# Altium integrated library Capacitor - Ceramic - Sumsung.IntLib: 1421 symbols (part 3 of 22)
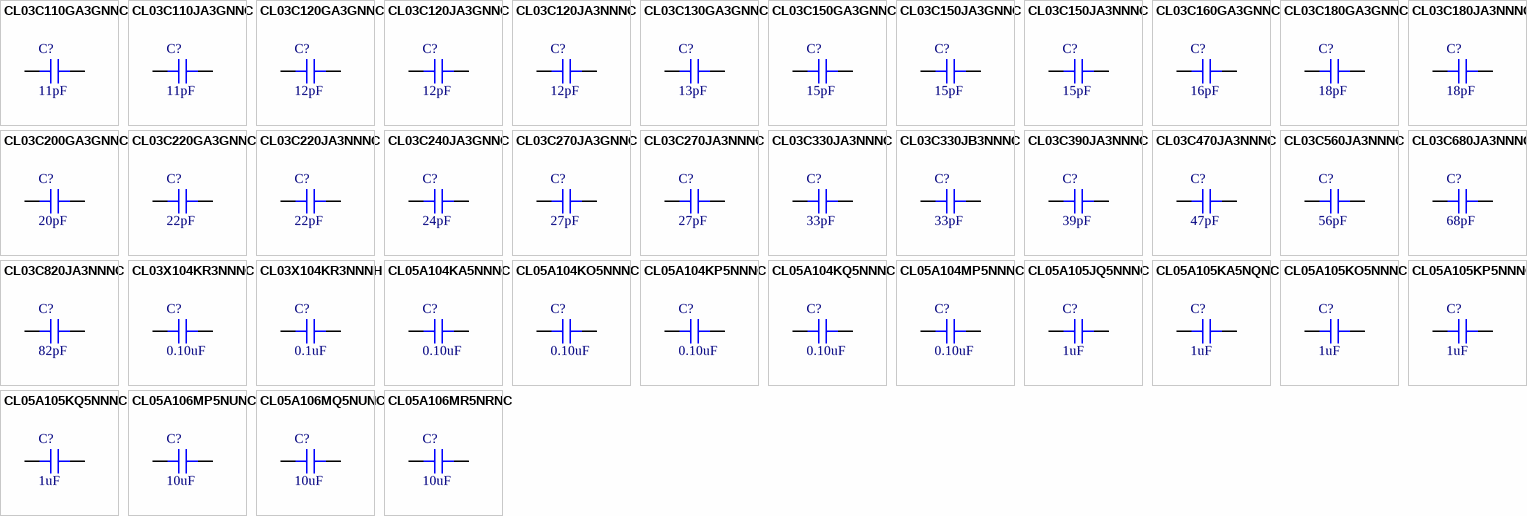
[diagram p37: symbols CL03C110GA3GNNC to CL05A106MR5NRNC]

## CL03C150GA3GNNC
designator C?, comment 15pF
CAP CER 15PF 25V NP0 0201; Part Number: CL03C150GA3GNNC; Manufacturer: Samsung Electro-Mechanics America, Inc.; TemperatureRange: -55C ~ 125C; TemperatureCoefficient: C0G, NP0; Tolerance: 2%; Value: 15pF; PartId: 21089; Supplier 1: Digi-Key; Supplier Part Number 1: 1276-6744-2-ND; ComponentLink1Description: Datasheet; ComponentLink1URL: http://www.samsungsem.com/kr/support/product-search/mlcc/__icsFiles/afieldfile/2016/08/18/S_CL03C150GA3GNNC.pdf; ComponentLink2Description: Digi-Key Listing; ComponentLink2URL: https://www.digikey.com/product-detail/en/samsung-electro-mechanics-america-inc/CL03C150GA3GNNC/1276-6744-2-ND/5961228; Voltage: 25V; Price: 0.0153; Device Package: 0201 (0603 Metric)
footprint CAP 0201/0603
pins: 1, 2

## CL03C150JA3GNNC
designator C?, comment 15pF
CAP CER 15PF 25V C0G/NP0 0201; Part Number: CL03C150JA3GNNC; Manufacturer: Samsung Electro-Mechanics; TemperatureRange: -55C ~ 125C; TemperatureCoefficient: C0G, NP0; Tolerance: 5%; Value: 15pF; PartId: 30140; Supplier 1: Digi-Key; Supplier Part Number 1: 1276-6573-2-ND; ComponentLink1Description: Datasheet; ComponentLink1URL: http://www.samsungsem.com/kr/support/product-search/mlcc/CL03C150JA3GNNC.jsp; ComponentLink2Description: Digi-Key Listing; ComponentLink2URL: https://www.digikey.com/product-detail/en/samsung-electro-mechanics/CL03C150JA3GNNC/1276-6573-2-ND/5961057; Voltage: 25V; Price: 0; Device Package: 0201 (0603 Metric)
footprint CAP 0201/0603
pins: 1, 2

## CL03C150JA3NNNC
designator C?, comment 15pF
CAP CER 15PF 25V NP0 0201; Part Number: CL03C150JA3NNNC; Manufacturer: Samsung Electro-Mechanics America, Inc.; TemperatureRange: -55C ~ 125C; TemperatureCoefficient: C0G, NP0; Tolerance: 5%; Value: 15pF; PartId: 20735; Supplier 1: Digi-Key; Supplier Part Number 1: 1276-6401-2-ND; ComponentLink1Description: Datasheet; ComponentLink1URL: http://www.samsungsem.com/kr/support/product-search/mlcc/__icsFiles/afieldfile/2016/08/18/S_CL03C150JA3NNNC.pdf; ComponentLink2Description: Digi-Key Listing; ComponentLink2URL: https://www.digikey.com/product-detail/en/samsung-electro-mechanics-america-inc/CL03C150JA3NNNC/1276-6401-2-ND/5180495; Voltage: 25V; Price: 0.0039; Device Package: 0201 (0603 Metric)
footprint CAP 0201/0603
pins: 1, 2

## CL03C160GA3GNNC
designator C?, comment 16pF
CAP CER 16PF 25V NP0 0201; Part Number: CL03C160GA3GNNC; Manufacturer: Samsung Electro-Mechanics America, Inc.; TemperatureRange: -55C ~ 125C; TemperatureCoefficient: C0G, NP0; Tolerance: 2%; Value: 16pF; PartId: 21091; Supplier 1: Digi-Key; Supplier Part Number 1: 1276-6749-2-ND; ComponentLink1Description: Datasheet; ComponentLink1URL: //media.digikey.com/pdf/Data%20Sheets/Samsung%20PDFs/CL03C160GA3GNNC_Spec.pdf; ComponentLink2Description: Digi-Key Listing; ComponentLink2URL: https://www.digikey.com/product-detail/en/samsung-electro-mechanics-america-inc/CL03C160GA3GNNC/1276-6749-2-ND/5961233; Voltage: 25V; Price: 0.0153; Device Package: 0201 (0603 Metric)
footprint CAP 0201/0603
pins: 1, 2

## CL03C180GA3GNNC
designator C?, comment 18pF
CAP CER 18PF 25V NP0 0201; Part Number: CL03C180GA3GNNC; Manufacturer: Samsung Electro-Mechanics America, Inc.; TemperatureRange: -55C ~ 125C; TemperatureCoefficient: C0G, NP0; Tolerance: 2%; Value: 18pF; PartId: 21019; Supplier 1: Digi-Key; Supplier Part Number 1: 1276-6791-2-ND; ComponentLink1Description: Datasheet; ComponentLink1URL: http://www.samsungsem.com/kr/support/product-search/mlcc/__icsFiles/afieldfile/2016/08/18/S_CL03C180GA3GNNC.pdf; ComponentLink2Description: Digi-Key Listing; ComponentLink2URL: https://www.digikey.com/product-detail/en/samsung-electro-mechanics-america-inc/CL03C180GA3GNNC/1276-6791-2-ND/5961275; Voltage: 25V; Price: 0.0236; Device Package: 0201 (0603 Metric)
footprint CAP 0201/0603
pins: 1, 2

## CL03C180JA3NNNC
designator C?, comment 18pF
CAP CER 18PF 25V NP0 0201; Part Number: CL03C180JA3NNNC; Manufacturer: Samsung Electro-Mechanics America, Inc.; TemperatureRange: -55C ~ 125C; TemperatureCoefficient: C0G, NP0; Tolerance: 5%; Value: 18pF; PartId: 20731; Supplier 1: Digi-Key; Supplier Part Number 1: 1276-6402-2-ND; ComponentLink1Description: Datasheet; ComponentLink1URL: http://www.samsungsem.com/kr/support/product-search/mlcc/__icsFiles/afieldfile/2016/08/18/S_CL03C180JA3NNNC.pdf; ComponentLink2Description: Digi-Key Listing; ComponentLink2URL: https://www.digikey.com/product-detail/en/samsung-electro-mechanics-america-inc/CL03C180JA3NNNC/1276-6402-2-ND/5180496; Voltage: 25V; Price: 0.0039; Device Package: 0201 (0603 Metric)
footprint CAP 0201/0603
pins: 1, 2

## CL03C200GA3GNNC
designator C?, comment 20pF
CAP CER 20PF 25V NP0 0201; Part Number: CL03C200GA3GNNC; Manufacturer: Samsung Electro-Mechanics America, Inc.; TemperatureRange: -55C ~ 125C; TemperatureCoefficient: C0G, NP0; Tolerance: 2%; Value: 20pF; PartId: 21090; Supplier 1: Digi-Key; Supplier Part Number 1: 1276-6746-2-ND; ComponentLink1Description: Datasheet; ComponentLink1URL: http://www.samsungsem.com/kr/support/product-search/mlcc/__icsFiles/afieldfile/2016/08/18/S_CL03C200GA3GNNC.pdf; ComponentLink2Description: Digi-Key Listing; ComponentLink2URL: https://www.digikey.com/product-detail/en/samsung-electro-mechanics-america-inc/CL03C200GA3GNNC/1276-6746-2-ND/5961230; Voltage: 25V; Price: 0.0153; Device Package: 0201 (0603 Metric)
footprint CAP 0201/0603
pins: 1, 2

## CL03C220GA3GNNC
designator C?, comment 22pF
CAP CER 22PF 25V NP0 0201; Part Number: CL03C220GA3GNNC; Manufacturer: Samsung Electro-Mechanics America, Inc.; TemperatureRange: -55C ~ 125C; TemperatureCoefficient: C0G, NP0; Tolerance: 2%; Value: 22pF; PartId: 21094; Supplier 1: Digi-Key; Supplier Part Number 1: 1276-6747-2-ND; ComponentLink1Description: Datasheet; ComponentLink1URL: http://www.samsungsem.com/kr/support/product-search/mlcc/__icsFiles/afieldfile/2016/08/18/S_CL03C220GA3GNNC.pdf; ComponentLink2Description: Digi-Key Listing; ComponentLink2URL: https://www.digikey.com/product-detail/en/samsung-electro-mechanics-america-inc/CL03C220GA3GNNC/1276-6747-2-ND/5961231; Voltage: 25V; Price: 0.0153; Device Package: 0201 (0603 Metric)
footprint CAP 0201/0603
pins: 1, 2

## CL03C220JA3NNNC
designator C?, comment 22pF
CAP CER 22PF 25V NP0 0201; Part Number: CL03C220JA3NNNC; Manufacturer: Samsung Electro-Mechanics America, Inc.; TemperatureRange: -55C ~ 125C; TemperatureCoefficient: C0G, NP0; Tolerance: 5%; Value: 22pF; PartId: 20729; Supplier 1: Digi-Key; Supplier Part Number 1: 1276-6403-2-ND; ComponentLink1Description: Datasheet; ComponentLink1URL: //media.digikey.com/pdf/Data%20Sheets/Samsung%20PDFs/CL_Series_MLCC_ds.pdf; ComponentLink2Description: Digi-Key Listing; ComponentLink2URL: https://www.digikey.com/product-detail/en/samsung-electro-mechanics-america-inc/CL03C220JA3NNNC/1276-6403-2-ND/5180497; Voltage: 25V; Price: 0.0039; Device Package: 0201 (0603 Metric)
footprint CAP 0201/0603
pins: 1, 2

## CL03C240JA3GNNC
designator C?, comment 24pF
CAP CER 24PF 25V NP0 0201; Part Number: CL03C240JA3GNNC; Manufacturer: Samsung Electro-Mechanics America, Inc.; TemperatureRange: -55C ~ 125C; TemperatureCoefficient: C0G, NP0; Tolerance: 5%; Value: 24pF; PartId: 21034; Supplier 1: Digi-Key; Supplier Part Number 1: 1276-6564-2-ND; ComponentLink1Description: Datasheet; ComponentLink1URL: http://www.samsungsem.com/kr/support/product-search/mlcc/__icsFiles/afieldfile/2016/08/18/S_CL03C240JA3GNNC.pdf; ComponentLink2Description: Digi-Key Listing; ComponentLink2URL: https://www.digikey.com/product-detail/en/samsung-electro-mechanics-america-inc/CL03C240JA3GNNC/1276-6564-2-ND/5961048; Voltage: 25V; Price: 0.0035; Device Package: 0201 (0603 Metric)
footprint CAP 0201/0603
pins: 1, 2

## CL03C270JA3GNNC
designator C?, comment 27pF
CAP CER 27PF 25V NP0 0201; Part Number: CL03C270JA3GNNC; Manufacturer: Samsung Electro-Mechanics America, Inc.; TemperatureRange: -55C ~ 125C; TemperatureCoefficient: C0G, NP0; Tolerance: 5%; Value: 27pF; PartId: 21035; Supplier 1: Digi-Key; Supplier Part Number 1: 1276-6574-2-ND; ComponentLink1Description: Datasheet; ComponentLink1URL: http://www.samsungsem.com/kr/support/product-search/mlcc/__icsFiles/afieldfile/2016/08/18/S_CL03C270JA3GNNC.pdf; ComponentLink2Description: Digi-Key Listing; ComponentLink2URL: https://www.digikey.com/product-detail/en/samsung-electro-mechanics-america-inc/CL03C270JA3GNNC/1276-6574-2-ND/5961058; Voltage: 25V; Price: 0.0037; Device Package: 0201 (0603 Metric)
footprint CAP 0201/0603
pins: 1, 2

## CL03C270JA3NNNC
designator C?, comment 27pF
CAP CER 27PF 25V NP0 0201; Part Number: CL03C270JA3NNNC; Manufacturer: Samsung Electro-Mechanics America, Inc.; TemperatureRange: -55C ~ 125C; TemperatureCoefficient: C0G, NP0; Tolerance: 5%; Value: 27pF; PartId: 21041; Supplier 1: Digi-Key; Supplier Part Number 1: 1276-6404-2-ND; ComponentLink1Description: Datasheet; ComponentLink1URL: http://www.samsungsem.com/kr/support/product-search/mlcc/__icsFiles/afieldfile/2016/08/18/S_CL03C270JA3NNNC.pdf; ComponentLink2Description: Digi-Key Listing; ComponentLink2URL: https://www.digikey.com/product-detail/en/samsung-electro-mechanics-america-inc/CL03C270JA3NNNC/1276-6404-2-ND/5180498; Voltage: 25V; Price: 0.0039; Device Package: 0201 (0603 Metric)
footprint CAP 0201/0603
pins: 1, 2

## CL03C330JA3NNNC
designator C?, comment 33pF
CAP CER 33PF 25V NP0 0201; Part Number: CL03C330JA3NNNC; Manufacturer: Samsung Electro-Mechanics America, Inc.; TemperatureRange: -55C ~ 125C; TemperatureCoefficient: C0G, NP0; Tolerance: 5%; Value: 33pF; PartId: 21082; Supplier 1: Digi-Key; Supplier Part Number 1: 1276-6405-2-ND; ComponentLink1Description: Datasheet; ComponentLink1URL: //media.digikey.com/pdf/Data%20Sheets/Samsung%20PDFs/MLCC_Catalog_2015.pdf; ComponentLink2Description: Digi-Key Listing; ComponentLink2URL: https://www.digikey.com/product-detail/en/samsung-electro-mechanics-america-inc/CL03C330JA3NNNC/1276-6405-2-ND/5180499; Voltage: 25V; Price: 0.0039; Device Package: 0201 (0603 Metric)
footprint CAP 0201/0603
pins: 1, 2

## CL03C330JB3NNNC
designator C?, comment 33pF
CAP CER 33PF 50V NP0 0201; Part Number: CL03C330JB3NNNC; Manufacturer: Samsung Electro-Mechanics America, Inc.; TemperatureRange: -55C ~ 125C; TemperatureCoefficient: C0G, NP0; Tolerance: 5%; Value: 33pF; PartId: 21038; Supplier 1: Digi-Key; Supplier Part Number 1: 1276-6740-2-ND; ComponentLink1Description: Datasheet; ComponentLink1URL: //media.digikey.com/pdf/Data%20Sheets/Samsung%20PDFs/CL_Series_MLCC_ds.pdf; ComponentLink2Description: Digi-Key Listing; ComponentLink2URL: https://www.digikey.com/product-detail/en/samsung-electro-mechanics-america-inc/CL03C330JB3NNNC/1276-6740-2-ND/5961224; Voltage: 50V; Price: 0.012; Device Package: 0201 (0603 Metric)
footprint CAP 0201/0603
pins: 1, 2

## CL03C390JA3NNNC
designator C?, comment 39pF
CAP CER 39PF 25V NP0 0201; Part Number: CL03C390JA3NNNC; Manufacturer: Samsung Electro-Mechanics America, Inc.; TemperatureRange: -55C ~ 125C; TemperatureCoefficient: C0G, NP0; Tolerance: 5%; Value: 39pF; PartId: 20998; Supplier 1: Digi-Key; Supplier Part Number 1: 1276-6406-2-ND; ComponentLink1Description: Datasheet; ComponentLink1URL: http://www.samsungsem.com/kr/support/product-search/mlcc/__icsFiles/afieldfile/2016/08/18/S_CL03C390JA3NNNC.pdf; ComponentLink2Description: Digi-Key Listing; ComponentLink2URL: https://www.digikey.com/product-detail/en/samsung-electro-mechanics-america-inc/CL03C390JA3NNNC/1276-6406-2-ND/5180500; Voltage: 25V; Price: 0.0039; Device Package: 0201 (0603 Metric)
footprint CAP 0201/0603
pins: 1, 2

## CL03C470JA3NNNC
designator C?, comment 47pF
CAP CER 47PF 25V NP0 0201; Part Number: CL03C470JA3NNNC; Manufacturer: Samsung Electro-Mechanics America, Inc.; TemperatureRange: -55C ~ 125C; TemperatureCoefficient: C0G, NP0; Tolerance: 5%; Value: 47pF; PartId: 21063; Supplier 1: Digi-Key; Supplier Part Number 1: 1276-6407-2-ND; ComponentLink1Description: Datasheet; ComponentLink1URL: http://www.samsungsem.com/kr/support/product-search/mlcc/__icsFiles/afieldfile/2016/08/18/S_CL03C470JA3NNNC.pdf; ComponentLink2Description: Digi-Key Listing; ComponentLink2URL: https://www.digikey.com/product-detail/en/samsung-electro-mechanics-america-inc/CL03C470JA3NNNC/1276-6407-2-ND/5180501; Voltage: 25V; Price: 0.0039; Device Package: 0201 (0603 Metric)
footprint CAP 0201/0603
pins: 1, 2

## CL03C560JA3NNNC
designator C?, comment 56pF
CAP CER 56PF 25V NP0 0201; Part Number: CL03C560JA3NNNC; Manufacturer: Samsung Electro-Mechanics America, Inc.; TemperatureRange: -55C ~ 125C; TemperatureCoefficient: C0G, NP0; Tolerance: 5%; Value: 56pF; PartId: 21045; Supplier 1: Digi-Key; Supplier Part Number 1: 1276-6408-2-ND; ComponentLink1Description: Datasheet; ComponentLink1URL: http://www.samsungsem.com/kr/support/product-search/mlcc/__icsFiles/afieldfile/2016/08/18/S_CL03C560JA3NNNC.pdf; ComponentLink2Description: Digi-Key Listing; ComponentLink2URL: https://www.digikey.com/product-detail/en/samsung-electro-mechanics-america-inc/CL03C560JA3NNNC/1276-6408-2-ND/5180502; Voltage: 25V; Price: 0.0039; Device Package: 0201 (0603 Metric)
footprint CAP 0201/0603
pins: 1, 2

## CL03C680JA3NNNC
designator C?, comment 68pF
CAP CER 68PF 25V NP0 0201; Part Number: CL03C680JA3NNNC; Manufacturer: Samsung Electro-Mechanics America, Inc.; TemperatureRange: -55C ~ 125C; TemperatureCoefficient: C0G, NP0; Tolerance: 5%; Value: 68pF; PartId: 20727; Supplier 1: Digi-Key; Supplier Part Number 1: 1276-6409-2-ND; ComponentLink1Description: Datasheet; ComponentLink1URL: http://www.samsungsem.com/kr/support/product-search/mlcc/__icsFiles/afieldfile/2016/08/18/S_CL03C680JA3NNNC.pdf; ComponentLink2Description: Digi-Key Listing; ComponentLink2URL: https://www.digikey.com/product-detail/en/samsung-electro-mechanics-america-inc/CL03C680JA3NNNC/1276-6409-2-ND/5180503; Voltage: 25V; Price: 0.0039; Device Package: 0201 (0603 Metric)
footprint CAP 0201/0603
pins: 1, 2

## CL03C820JA3NNNC
designator C?, comment 82pF
CAP CER 82PF 25V NP0 0201; Part Number: CL03C820JA3NNNC; Manufacturer: Samsung Electro-Mechanics America, Inc.; TemperatureRange: -55C ~ 125C; TemperatureCoefficient: C0G, NP0; Tolerance: 5%; Value: 82pF; PartId: 21042; Supplier 1: Digi-Key; Supplier Part Number 1: 1276-6410-2-ND; ComponentLink1Description: Datasheet; ComponentLink1URL: http://www.samsungsem.com/kr/support/product-search/mlcc/__icsFiles/afieldfile/2016/08/18/S_CL03C820JA3NNNC.pdf; ComponentLink2Description: Digi-Key Listing; ComponentLink2URL: https://www.digikey.com/product-detail/en/samsung-electro-mechanics-america-inc/CL03C820JA3NNNC/1276-6410-2-ND/5180504; Voltage: 25V; Price: 0.0039; Device Package: 0201 (0603 Metric)
footprint CAP 0201/0603
pins: 1, 2

## CL03X104KR3NNNC
designator C?, comment 0.10uF
CAP CER 0.1UF 4V X6S 0201; Part Number: CL03X104KR3NNNC; Manufacturer: Samsung Electro-Mechanics America, Inc.; TemperatureRange: -55C ~ 105C; Tolerance: 10%; Value: 0.10uF; PartId: 20877; Supplier 1: Digi-Key; Supplier Part Number 1: 1276-1439-2-ND; ComponentLink1Description: Datasheet; ComponentLink1URL: //media.digikey.com/pdf/Data%20Sheets/Samsung%20PDFs/CL03X104KR3NNNC.pdf; ComponentLink2Description: Digi-Key Listing; ComponentLink2URL: https://www.digikey.com/product-detail/en/samsung-electro-mechanics-america-inc/CL03X104KR3NNNC/1276-1439-2-ND/3887097; TemperatureCoefficient: X6S; Voltage: 4V; Price: 0.0067; Device Package: 0201 (0603 Metric)
footprint CAP 0201/0603
pins: 1, 2

## CL03X104KR3NNNH
designator C?, comment 0.1uF
CAP CER 0.1UF 4V X6S 0201; Part Number: CL03X104KR3NNNH; Manufacturer: Samsung Electro-Mechanics; TemperatureRange: -55C ~ 105C; Tolerance: 10%; Value: 0.1uF; PartId: 30119; Supplier 1: Digi-Key; Supplier Part Number 1: 1276-6450-2-ND; ComponentLink1Description: Datasheet; ComponentLink1URL: http://www.samsungsem.com/kr/support/product-search/mlcc/CL03X104KR3NNNH.jsp; ComponentLink2Description: Digi-Key Listing; ComponentLink2URL: https://www.digikey.com/product-detail/en/samsung-electro-mechanics/CL03X104KR3NNNH/1276-6450-2-ND/3894181; TemperatureCoefficient: X6S; Voltage: 4V; Price: 0; Device Package: 0201 (0603 Metric)
footprint CAP 0201/0603
pins: 1, 2

## CL05A104KA5NNNC
designator C?, comment 0.10uF
CAP CER 0.1UF 25V X5R 0402; Part Number: CL05A104KA5NNNC; Manufacturer: Samsung Electro-Mechanics America, Inc.; TemperatureRange: -55C ~ 85C; Tolerance: 10%; Value: 0.10uF; PartId: 12393; Supplier 1: Digi-Key; Supplier Part Number 1: 1276-1043-2-ND; ComponentLink1Description: Datasheet; ComponentLink1URL: http://www.samsungsem.com/kr/support/product-search/mlcc/CL05A104KA5NNNC.jsp; ComponentLink2Description: Digi-Key Listing; ComponentLink2URL: https://www.digikey.com/product-detail/en/samsung-electro-mechanics-america-inc/CL05A104KA5NNNC/1276-1043-2-ND/3886701; TemperatureCoefficient: X5R; Voltage: 25V; Price: 0.0048; Device Package: 0402 (1005 Metric)
footprint CAP 0402/1005
pins: 1, 2

## CL05A104KO5NNNC
designator C?, comment 0.10uF
CAP CER 0.1UF 16V X5R 0402; Part Number: CL05A104KO5NNNC; Manufacturer: Samsung Electro-Mechanics America, Inc.; TemperatureRange: -55C ~ 85C; Tolerance: 10%; Value: 0.10uF; PartId: 12656; Supplier 1: Digi-Key; Supplier Part Number 1: 1276-1234-2-ND; ComponentLink1Description: Datasheet; ComponentLink1URL: http://www.samsungsem.com/kr/support/product-search/mlcc/CL05A104KO5NNNC.jsp; ComponentLink2Description: Digi-Key Listing; ComponentLink2URL: https://www.digikey.com/product-detail/en/samsung-electro-mechanics-america-inc/CL05A104KO5NNNC/1276-1234-2-ND/3886892; TemperatureCoefficient: X5R; Voltage: 16V; Price: 0.0023; Device Package: 0402 (1005 Metric)
footprint CAP 0402/1005
pins: 1, 2

## CL05A104KP5NNNC
designator C?, comment 0.10uF
CAP CER 0.1UF 10V X5R 0402; Part Number: CL05A104KP5NNNC; Manufacturer: Samsung Electro-Mechanics America, Inc.; TemperatureRange: -55C ~ 85C; Tolerance: 10%; Value: 0.10uF; PartId: 12452; Supplier 1: Digi-Key; Supplier Part Number 1: 1276-1022-2-ND; ComponentLink1Description: Datasheet; ComponentLink1URL: http://www.samsungsem.com/kr/support/product-search/mlcc/CL05A104KP5NNNC.jsp; ComponentLink2Description: Digi-Key Listing; ComponentLink2URL: https://www.digikey.com/product-detail/en/samsung-electro-mechanics-america-inc/CL05A104KP5NNNC/1276-1022-2-ND/3886680; TemperatureCoefficient: X5R; Voltage: 10V; Price: 0.0018; Device Package: 0402 (1005 Metric)
footprint CAP 0402/1005
pins: 1, 2

## CL05A104KQ5NNNC
designator C?, comment 0.10uF
CAP CER 0.1UF 6.3V X5R 0402; Part Number: CL05A104KQ5NNNC; Manufacturer: Samsung Electro-Mechanics America, Inc.; TemperatureRange: -55C ~ 85C; Tolerance: 10%; Value: 0.10uF; PartId: 12413; Supplier 1: Digi-Key; Supplier Part Number 1: 1276-1442-2-ND; ComponentLink1Description: Datasheet; ComponentLink1URL: http://www.samsungsem.com/kr/support/product-search/mlcc/CL05A104KQ5NNNC.jsp; ComponentLink2Description: Digi-Key Listing; ComponentLink2URL: https://www.digikey.com/product-detail/en/samsung-electro-mechanics-america-inc/CL05A104KQ5NNNC/1276-1442-2-ND/3887100; TemperatureCoefficient: X5R; Voltage: 6.3V; Price: 0.0019; Device Package: 0402 (1005 Metric)
footprint CAP 0402/1005
pins: 1, 2

## CL05A104MP5NNNC
designator C?, comment 0.10uF
CAP CER 0.1UF 10V X5R 0402; Part Number: CL05A104MP5NNNC; Manufacturer: Samsung Electro-Mechanics America, Inc.; TemperatureRange: -55C ~ 85C; Tolerance: 20%; Value: 0.10uF; PartId: 12333; Supplier 1: Digi-Key; Supplier Part Number 1: 1276-1443-2-ND; ComponentLink1Description: Datasheet; ComponentLink1URL: http://www.samsungsem.com/kr/support/product-search/mlcc/CL05A104MP5NNNC.jsp; ComponentLink2Description: Digi-Key Listing; ComponentLink2URL: https://www.digikey.com/product-detail/en/samsung-electro-mechanics-america-inc/CL05A104MP5NNNC/1276-1443-2-ND/3887101; TemperatureCoefficient: X5R; Voltage: 10V; Price: 0.002; Device Package: 0402 (1005 Metric)
footprint CAP 0402/1005
pins: 1, 2

## CL05A105JQ5NNNC
designator C?, comment 1uF
CAP CER 1UF 6.3V X5R 0402; Part Number: CL05A105JQ5NNNC; Manufacturer: Samsung Electro-Mechanics America, Inc.; TemperatureRange: -55C ~ 85C; Tolerance: 5%; Value: 1uF; PartId: 12541; Supplier 1: Digi-Key; Supplier Part Number 1: 1276-1444-2-ND; ComponentLink1Description: Datasheet; ComponentLink1URL: http://www.samsungsem.com/kr/support/product-search/mlcc/CL05A105JQ5NNNC.jsp; ComponentLink2Description: Digi-Key Listing; ComponentLink2URL: https://www.digikey.com/product-detail/en/samsung-electro-mechanics-america-inc/CL05A105JQ5NNNC/1276-1444-2-ND/3887102; TemperatureCoefficient: X5R; Voltage: 6.3V; Price: 0.0043; Device Package: 0402 (1005 Metric)
footprint CAP 0402/1005
pins: 1, 2

## CL05A105KA5NQNC
designator C?, comment 1uF
CAP CER 1UF 25V X5R 0402; Part Number: CL05A105KA5NQNC; Manufacturer: Samsung Electro-Mechanics America, Inc.; TemperatureRange: -55C ~ 85C; Tolerance: 10%; Value: 1uF; PartId: 12730; Supplier 1: Digi-Key; Supplier Part Number 1: 1276-1445-2-ND; ComponentLink1Description: Datasheet; ComponentLink1URL: http://www.samsungsem.com/kr/support/product-search/mlcc/CL05A105KA5NQNC.jsp; ComponentLink2Description: Digi-Key Listing; ComponentLink2URL: https://www.digikey.com/product-detail/en/samsung-electro-mechanics-america-inc/CL05A105KA5NQNC/1276-1445-2-ND/3887103; TemperatureCoefficient: X5R; Voltage: 25V; Price: 0.0483; Device Package: 0402 (1005 Metric)
footprint CAP 0402/1005
pins: 1, 2

## CL05A105KO5NNNC
designator C?, comment 1uF
CAP CER 1UF 16V X5R 0402; Part Number: CL05A105KO5NNNC; Manufacturer: Samsung Electro-Mechanics America, Inc.; TemperatureRange: -55C ~ 85C; Tolerance: 10%; Value: 1uF; PartId: 12470; Supplier 1: Digi-Key; Supplier Part Number 1: 1276-1067-2-ND; ComponentLink1Description: Datasheet; ComponentLink1URL: http://www.samsungsem.com/kr/support/product-search/mlcc/CL05A105KO5NNNC.jsp; ComponentLink2Description: Digi-Key Listing; ComponentLink2URL: https://www.digikey.com/product-detail/en/samsung-electro-mechanics-america-inc/CL05A105KO5NNNC/1276-1067-2-ND/3886725; TemperatureCoefficient: X5R; Voltage: 16V; Price: 0.0105; Device Package: 0402 (1005 Metric)
footprint CAP 0402/1005
pins: 1, 2

## CL05A105KP5NNNC
designator C?, comment 1uF
CAP CER 1UF 10V X5R 0402; Part Number: CL05A105KP5NNNC; Manufacturer: Samsung Electro-Mechanics America, Inc.; TemperatureRange: -55C ~ 85C; Tolerance: 10%; Value: 1uF; PartId: 12436; Supplier 1: Digi-Key; Supplier Part Number 1: 1276-1076-2-ND; ComponentLink1Description: Datasheet; ComponentLink1URL: http://www.samsungsem.com/kr/support/product-search/mlcc/CL05A105KP5NNNC.jsp; ComponentLink2Description: Digi-Key Listing; ComponentLink2URL: https://www.digikey.com/product-detail/en/samsung-electro-mechanics-america-inc/CL05A105KP5NNNC/1276-1076-2-ND/3886734; TemperatureCoefficient: X5R; Voltage: 10V; Price: 0.0051; Device Package: 0402 (1005 Metric)
footprint CAP 0402/1005
pins: 1, 2

## CL05A105KQ5NNNC
designator C?, comment 1uF
CAP CER 1UF 6.3V X5R 0402; Part Number: CL05A105KQ5NNNC; Manufacturer: Samsung Electro-Mechanics America, Inc.; TemperatureRange: -55C ~ 85C; Tolerance: 10%; Value: 1uF; PartId: 12358; Supplier 1: Digi-Key; Supplier Part Number 1: 1276-1010-2-ND; ComponentLink1Description: Datasheet; ComponentLink1URL: http://www.samsungsem.com/kr/support/product-search/mlcc/CL05A105KQ5NNNC.jsp; ComponentLink2Description: Digi-Key Listing; ComponentLink2URL: https://www.digikey.com/product-detail/en/samsung-electro-mechanics-america-inc/CL05A105KQ5NNNC/1276-1010-2-ND/3886668; TemperatureCoefficient: X5R; Voltage: 6.3V; Price: 0.0051; Device Package: 0402 (1005 Metric)
footprint CAP 0402/1005
pins: 1, 2

## CL05A106MP5NUNC
designator C?, comment 10uF
CAP CER 10UF 10V X5R 0402; Part Number: CL05A106MP5NUNC; Manufacturer: Samsung Electro-Mechanics America, Inc.; TemperatureRange: -55C ~ 85C; Tolerance: 20%; Value: 10uF; PartId: 12347; Supplier 1: Digi-Key; Supplier Part Number 1: 1276-1450-2-ND; ComponentLink1Description: Datasheet; ComponentLink1URL: http://www.samsungsem.com/kr/support/product-search/mlcc/CL05A106MP5NUNC.jsp; ComponentLink2Description: Digi-Key Listing; ComponentLink2URL: https://www.digikey.com/product-detail/en/samsung-electro-mechanics-america-inc/CL05A106MP5NUNC/1276-1450-2-ND/3887108; TemperatureCoefficient: X5R; Voltage: 10V; Price: 0.1301; Device Package: 0402 (1005 Metric)
footprint CAP 0402/1005
pins: 1, 2

## CL05A106MQ5NUNC
designator C?, comment 10uF
CAP CER 10UF 6.3V X5R 0402; Part Number: CL05A106MQ5NUNC; Manufacturer: Samsung Electro-Mechanics America, Inc.; TemperatureRange: -55C ~ 85C; Tolerance: 20%; Value: 10uF; PartId: 12400; Supplier 1: Digi-Key; Supplier Part Number 1: 1276-1451-2-ND; ComponentLink1Description: Datasheet; ComponentLink1URL: http://www.samsungsem.com/kr/support/product-search/mlcc/CL05A106MQ5NUNC.jsp; ComponentLink2Description: Digi-Key Listing; ComponentLink2URL: https://www.digikey.com/product-detail/en/samsung-electro-mechanics-america-inc/CL05A106MQ5NUNC/1276-1451-2-ND/3887109; TemperatureCoefficient: X5R; Voltage: 6.3V; Price: 0.119; Device Package: 0402 (1005 Metric)
footprint CAP 0402/1005
pins: 1, 2

## CL05A106MR5NRNC
designator C?, comment 10uF
CAP CER 10UF 4V X5R 0402; Part Number: CL05A106MR5NRNC; Manufacturer: Samsung Electro-Mechanics America, Inc.; TemperatureRange: -55C ~ 85C; Tolerance: 20%; Value: 10uF; PartId: 12546; Supplier 1: Digi-Key; Supplier Part Number 1: 1276-1452-2-ND; ComponentLink1Description: Datasheet; ComponentLink1URL: http://www.samsungsem.com/kr/support/product-search/mlcc/CL05A106MR5NRNC.jsp; ComponentLink2Description: Digi-Key Listing; ComponentLink2URL: https://www.digikey.com/product-detail/en/samsung-electro-mechanics-america-inc/CL05A106MR5NRNC/1276-1452-2-ND/3887110; TemperatureCoefficient: X5R; Voltage: 4V; Price: 0.096; Device Package: 0402 (1005 Metric)
footprint CAP 0402/1005
pins: 1, 2

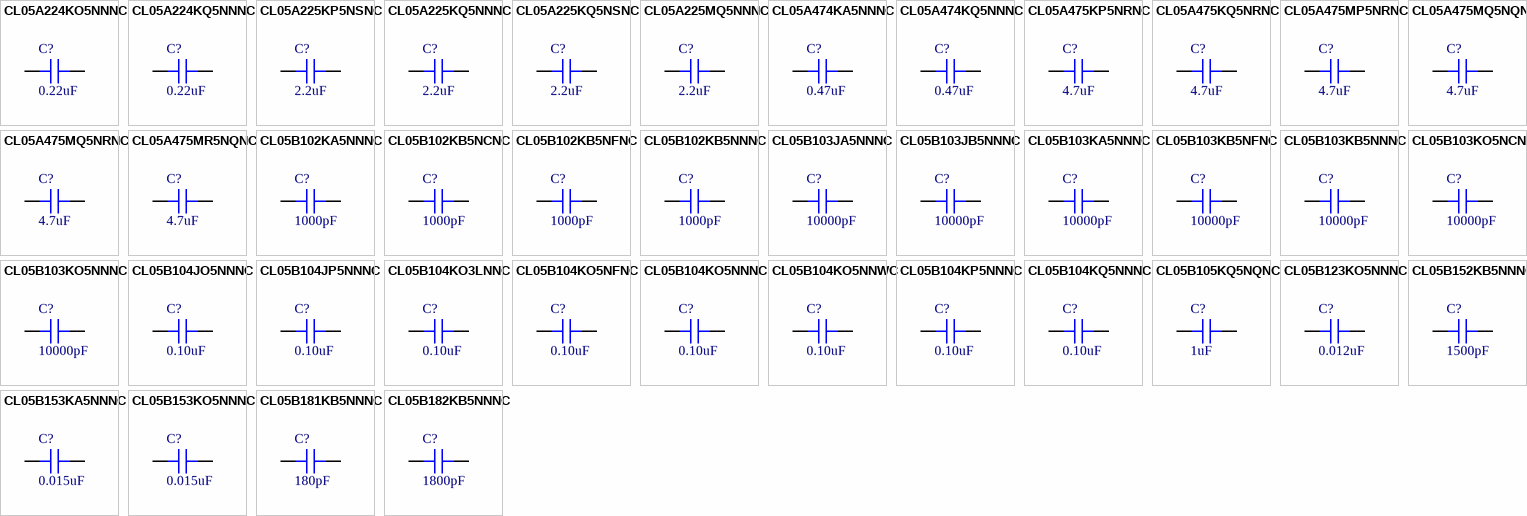
[diagram p4: symbols CL05A224KO5NNNC to CL05B182KB5NNNC]

## CL05A224KO5NNNC
designator C?, comment 0.22uF
CAP CER 0.22UF 16V X5R 0402; Part Number: CL05A224KO5NNNC; Manufacturer: Samsung Electro-Mechanics America, Inc.; TemperatureRange: -55C ~ 85C; Tolerance: 10%; Value: 0.22uF; PartId: 12912; Supplier 1: Digi-Key; Supplier Part Number 1: 1276-1456-2-ND; ComponentLink1Description: Datasheet; ComponentLink1URL: http://www.samsungsem.com/kr/support/product-search/mlcc/CL05A224KO5NNNC.jsp; ComponentLink2Description: Digi-Key Listing; ComponentLink2URL: https://www.digikey.com/product-detail/en/samsung-electro-mechanics-america-inc/CL05A224KO5NNNC/1276-1456-2-ND/3887114; TemperatureCoefficient: X5R; Voltage: 16V; Price: 0.0144; Device Package: 0402 (1005 Metric)
footprint CAP 0402/1005
pins: 1, 2

## CL05A224KQ5NNNC
designator C?, comment 0.22uF
CAP CER 0.22UF 6.3V X5R 0402; Part Number: CL05A224KQ5NNNC; Manufacturer: Samsung Electro-Mechanics America, Inc.; TemperatureRange: -55C ~ 85C; Tolerance: 10%; Value: 0.22uF; PartId: 12928; Supplier 1: Digi-Key; Supplier Part Number 1: 1276-1124-2-ND; ComponentLink1Description: Datasheet; ComponentLink1URL: http://www.samsungsem.com/kr/support/product-search/mlcc/CL05A224KQ5NNNC.jsp; ComponentLink2Description: Digi-Key Listing; ComponentLink2URL: https://www.digikey.com/product-detail/en/samsung-electro-mechanics-america-inc/CL05A224KQ5NNNC/1276-1124-2-ND/3886782; TemperatureCoefficient: X5R; Voltage: 6.3V; Price: 0.0089; Device Package: 0402 (1005 Metric)
footprint CAP 0402/1005
pins: 1, 2

## CL05A225KP5NSNC
designator C?, comment 2.2uF
CAP CER 2.2UF 10V X5R 0402; Part Number: CL05A225KP5NSNC; Manufacturer: Samsung Electro-Mechanics America, Inc.; TemperatureRange: -55C ~ 85C; Tolerance: 10%; Value: 2.2uF; PartId: 12898; Supplier 1: Digi-Key; Supplier Part Number 1: 1276-1108-2-ND; ComponentLink1Description: Datasheet; ComponentLink1URL: http://www.samsungsem.com/kr/support/product-search/mlcc/CL05A225KP5NSNC.jsp; ComponentLink2Description: Digi-Key Listing; ComponentLink2URL: https://www.digikey.com/product-detail/en/samsung-electro-mechanics-america-inc/CL05A225KP5NSNC/1276-1108-2-ND/3886766; TemperatureCoefficient: X5R; Voltage: 10V; Price: 0.0612; Device Package: 0402 (1005 Metric)
footprint CAP 0402/1005
pins: 1, 2

## CL05A225KQ5NNNC
designator C?, comment 2.2uF
CAP CER 2.2UF 6.3V X5R 0402; Part Number: CL05A225KQ5NNNC; Manufacturer: Samsung Electro-Mechanics America, Inc.; TemperatureRange: -55C ~ 85C; Tolerance: 10%; Value: 2.2uF; PartId: 12629; Supplier 1: Digi-Key; Supplier Part Number 1: 1276-1172-2-ND; ComponentLink1Description: Datasheet; ComponentLink1URL: http://www.samsungsem.com/kr/support/product-search/mlcc/CL05A225KQ5NNNC.jsp; ComponentLink2Description: Digi-Key Listing; ComponentLink2URL: https://www.digikey.com/product-detail/en/samsung-electro-mechanics-america-inc/CL05A225KQ5NNNC/1276-1172-2-ND/3886830; TemperatureCoefficient: X5R; Voltage: 6.3V; Price: 0.0293; Device Package: 0402 (1005 Metric)
footprint CAP 0402/1005
pins: 1, 2

## CL05A225KQ5NSNC
designator C?, comment 2.2uF
CAP CER 2.2UF 6.3V X5R 0402; Part Number: CL05A225KQ5NSNC; Manufacturer: Samsung Electro-Mechanics America, Inc.; TemperatureRange: -55C ~ 85C; Tolerance: 10%; Value: 2.2uF; PartId: 12868; Supplier 1: Digi-Key; Supplier Part Number 1: 1276-1464-2-ND; ComponentLink1Description: Datasheet; ComponentLink1URL: http://www.samsungsem.com/kr/support/product-search/mlcc/CL05A225KQ5NSNC.jsp; ComponentLink2Description: Digi-Key Listing; ComponentLink2URL: https://www.digikey.com/product-detail/en/samsung-electro-mechanics-america-inc/CL05A225KQ5NSNC/1276-1464-2-ND/3887122; TemperatureCoefficient: X5R; Voltage: 6.3V; Price: 0.0293; Device Package: 0402 (1005 Metric)
footprint CAP 0402/1005
pins: 1, 2

## CL05A225MQ5NNNC
designator C?, comment 2.2uF
CAP CER 2.2UF 6.3V X5R 0402; Part Number: CL05A225MQ5NNNC; Manufacturer: Samsung Electro-Mechanics America, Inc.; TemperatureRange: -55C ~ 85C; Tolerance: 20%; Value: 2.2uF; PartId: 12425; Supplier 1: Digi-Key; Supplier Part Number 1: 1276-1469-2-ND; ComponentLink1Description: Datasheet; ComponentLink1URL: http://www.samsungsem.com/kr/support/product-search/mlcc/CL05A225MQ5NNNC.jsp; ComponentLink2Description: Digi-Key Listing; ComponentLink2URL: https://www.digikey.com/product-detail/en/samsung-electro-mechanics-america-inc/CL05A225MQ5NNNC/1276-1469-2-ND/3887127; TemperatureCoefficient: X5R; Voltage: 6.3V; Price: 0.0151; Device Package: 0402 (1005 Metric)
footprint CAP 0402/1005
pins: 1, 2

## CL05A474KA5NNNC
designator C?, comment 0.47uF
CAP CER 0.47UF 25V X5R 0402; Part Number: CL05A474KA5NNNC; Manufacturer: Samsung Electro-Mechanics America, Inc.; TemperatureRange: -55C ~ 85C; Tolerance: 10%; Value: 0.47uF; PartId: 12812; Supplier 1: Digi-Key; Supplier Part Number 1: 1276-1477-2-ND; ComponentLink1Description: Datasheet; ComponentLink1URL: http://www.samsungsem.com/kr/support/product-search/mlcc/CL05A474KA5NNNC.jsp; ComponentLink2Description: Digi-Key Listing; ComponentLink2URL: https://www.digikey.com/product-detail/en/samsung-electro-mechanics-america-inc/CL05A474KA5NNNC/1276-1477-2-ND/3887135; TemperatureCoefficient: X5R; Voltage: 25V; Price: 0.0497; Device Package: 0402 (1005 Metric)
footprint CAP 0402/1005
pins: 1, 2

## CL05A474KQ5NNNC
designator C?, comment 0.47uF
CAP CER 0.47UF 6.3V X5R 0402; Part Number: CL05A474KQ5NNNC; Manufacturer: Samsung Electro-Mechanics America, Inc.; TemperatureRange: -55C ~ 85C; Tolerance: 10%; Value: 0.47uF; PartId: 12635; Supplier 1: Digi-Key; Supplier Part Number 1: 1276-1479-2-ND; ComponentLink1Description: Datasheet; ComponentLink1URL: http://www.samsungsem.com/kr/support/product-search/mlcc/CL05A474KQ5NNNC.jsp; ComponentLink2Description: Digi-Key Listing; ComponentLink2URL: https://www.digikey.com/product-detail/en/samsung-electro-mechanics-america-inc/CL05A474KQ5NNNC/1276-1479-2-ND/3887137; TemperatureCoefficient: X5R; Voltage: 6.3V; Price: 0.0094; Device Package: 0402 (1005 Metric)
footprint CAP 0402/1005
pins: 1, 2

## CL05A475KP5NRNC
designator C?, comment 4.7uF
CAP CER 4.7UF 10V X5R 0402; Part Number: CL05A475KP5NRNC; Manufacturer: Samsung Electro-Mechanics America, Inc.; TemperatureRange: -55C ~ 85C; Tolerance: 10%; Value: 4.7uF; PartId: 12521; Supplier 1: Digi-Key; Supplier Part Number 1: 1276-1480-2-ND; ComponentLink1Description: Datasheet; ComponentLink1URL: http://www.samsungsem.com/kr/support/product-search/mlcc/CL05A475KP5NRNC.jsp; ComponentLink2Description: Digi-Key Listing; ComponentLink2URL: https://www.digikey.com/product-detail/en/samsung-electro-mechanics-america-inc/CL05A475KP5NRNC/1276-1480-2-ND/3887138; TemperatureCoefficient: X5R; Voltage: 10V; Price: 0.096; Device Package: 0402 (1005 Metric)
footprint CAP 0402/1005
pins: 1, 2

## CL05A475KQ5NRNC
designator C?, comment 4.7uF
CAP CER 4.7UF 6.3V X5R 0402; Part Number: CL05A475KQ5NRNC; Manufacturer: Samsung Electro-Mechanics America, Inc.; TemperatureRange: -55C ~ 85C; Tolerance: 10%; Value: 4.7uF; PartId: 12522; Supplier 1: Digi-Key; Supplier Part Number 1: 1276-1481-2-ND; ComponentLink1Description: Datasheet; ComponentLink1URL: http://www.samsungsem.com/kr/support/product-search/mlcc/CL05A475KQ5NRNC.jsp; ComponentLink2Description: Digi-Key Listing; ComponentLink2URL: https://www.digikey.com/product-detail/en/samsung-electro-mechanics-america-inc/CL05A475KQ5NRNC/1276-1481-2-ND/3887139; TemperatureCoefficient: X5R; Voltage: 6.3V; Price: 0.08; Device Package: 0402 (1005 Metric)
footprint CAP 0402/1005
pins: 1, 2

## CL05A475MP5NRNC
designator C?, comment 4.7uF
CAP CER 4.7UF 10V X5R 0402; Part Number: CL05A475MP5NRNC; Manufacturer: Samsung Electro-Mechanics America, Inc.; TemperatureRange: -55C ~ 85C; Tolerance: 20%; Value: 4.7uF; PartId: 12573; Supplier 1: Digi-Key; Supplier Part Number 1: 1276-1482-2-ND; ComponentLink1Description: Datasheet; ComponentLink1URL: http://www.samsungsem.com/kr/support/product-search/mlcc/CL05A475MP5NRNC.jsp; ComponentLink2Description: Digi-Key Listing; ComponentLink2URL: https://www.digikey.com/product-detail/en/samsung-electro-mechanics-america-inc/CL05A475MP5NRNC/1276-1482-2-ND/3887140; TemperatureCoefficient: X5R; Voltage: 10V; Price: 0.0816; Device Package: 0402 (1005 Metric)
footprint CAP 0402/1005
pins: 1, 2

## CL05A475MQ5NQNC
designator C?, comment 4.7uF
CAP CER 4.7UF 6.3V X5R 0402; Part Number: CL05A475MQ5NQNC; Manufacturer: Samsung Electro-Mechanics America, Inc.; TemperatureRange: -55C ~ 85C; Tolerance: 20%; Value: 4.7uF; PartId: 12525; Supplier 1: Digi-Key; Supplier Part Number 1: 1276-1483-2-ND; ComponentLink1Description: Datasheet; ComponentLink1URL: http://www.samsungsem.com/kr/support/product-search/mlcc/CL05A475MQ5NQNC.jsp; ComponentLink2Description: Digi-Key Listing; ComponentLink2URL: https://www.digikey.com/product-detail/en/samsung-electro-mechanics-america-inc/CL05A475MQ5NQNC/1276-1483-2-ND/3887141; TemperatureCoefficient: X5R; Voltage: 6.3V; Price: 0.02; Device Package: 0402 (1005 Metric)
footprint CAP 0402/1005
pins: 1, 2

## CL05A475MQ5NRNC
designator C?, comment 4.7uF
CAP CER 4.7UF 6.3V X5R 0402; Part Number: CL05A475MQ5NRNC; Manufacturer: Samsung Electro-Mechanics America, Inc.; TemperatureRange: -55C ~ 85C; Tolerance: 20%; Value: 4.7uF; PartId: 12453; Supplier 1: Digi-Key; Supplier Part Number 1: 1276-1056-2-ND; ComponentLink1Description: Datasheet; ComponentLink1URL: http://www.samsungsem.com/kr/support/product-search/mlcc/CL05A475MQ5NRNC.jsp; ComponentLink2Description: Digi-Key Listing; ComponentLink2URL: https://www.digikey.com/product-detail/en/samsung-electro-mechanics-america-inc/CL05A475MQ5NRNC/1276-1056-2-ND/3886714; TemperatureCoefficient: X5R; Voltage: 6.3V; Price: 0.0332; Device Package: 0402 (1005 Metric)
footprint CAP 0402/1005
pins: 1, 2

## CL05A475MR5NQNC
designator C?, comment 4.7uF
CAP CER 4.7UF 4V X5R 0402; Part Number: CL05A475MR5NQNC; Manufacturer: Samsung Electro-Mechanics America, Inc.; TemperatureRange: -55C ~ 85C; Tolerance: 20%; Value: 4.7uF; PartId: 12693; Supplier 1: Digi-Key; Supplier Part Number 1: 1276-1484-2-ND; ComponentLink1Description: Datasheet; ComponentLink1URL: http://www.samsungsem.com/kr/support/product-search/mlcc/CL05A475MR5NQNC.jsp; ComponentLink2Description: Digi-Key Listing; ComponentLink2URL: https://www.digikey.com/product-detail/en/samsung-electro-mechanics-america-inc/CL05A475MR5NQNC/1276-1484-2-ND/3887142; TemperatureCoefficient: X5R; Voltage: 4V; Price: 0.0371; Device Package: 0402 (1005 Metric)
footprint CAP 0402/1005
pins: 1, 2

## CL05B102KA5NNNC
designator C?, comment 1000pF
CAP CER 1000PF 25V X7R 0402; Part Number: CL05B102KA5NNNC; Manufacturer: Samsung Electro-Mechanics America, Inc.; TemperatureRange: -55C ~ 125C; Tolerance: 10%; Value: 1000pF; PartId: 12787; Supplier 1: Digi-Key; Supplier Part Number 1: 1276-1174-2-ND; ComponentLink1Description: Datasheet; ComponentLink1URL: http://www.samsungsem.com/kr/support/product-search/mlcc/CL05B102KA5NNNC.jsp; ComponentLink2Description: Digi-Key Listing; ComponentLink2URL: https://www.digikey.com/product-detail/en/samsung-electro-mechanics-america-inc/CL05B102KA5NNNC/1276-1174-2-ND/3886832; TemperatureCoefficient: X7R; Voltage: 25V; Price: 0.0021; Device Package: 0402 (1005 Metric)
footprint CAP 0402/1005
pins: 1, 2

## CL05B102KB5NCNC
designator C?, comment 1000pF
CAP CER 1000PF 50V X7R 0402; Part Number: CL05B102KB5NCNC; Manufacturer: Samsung Electro-Mechanics America, Inc.; TemperatureRange: -55C ~ 125C; Tolerance: 10%; Value: 1000pF; PartId: 12451; Supplier 1: Digi-Key; Supplier Part Number 1: 1276-1492-2-ND; ComponentLink1Description: Datasheet; ComponentLink1URL: //media.digikey.com/pdf/Data%20Sheets/Samsung%20PDFs/CL05B102KB5NCNC_Spec.pdf; ComponentLink2Description: Digi-Key Listing; ComponentLink2URL: https://www.digikey.com/product-detail/en/samsung-electro-mechanics-america-inc/CL05B102KB5NCNC/1276-1492-2-ND/3887150; TemperatureCoefficient: X7R; Voltage: 50V; Price: 0.0021; Device Package: 0402 (1005 Metric)
footprint CAP 0402/1005
pins: 1, 2

## CL05B102KB5NFNC
designator C?, comment 1000pF
CAP CER 1000PF 50V X7R 0402; Part Number: CL05B102KB5NFNC; Manufacturer: Samsung Electro-Mechanics America, Inc.; TemperatureRange: -55C ~ 125C; Tolerance: 10%; Value: 1000pF; PartId: 12722; Supplier 1: Digi-Key; Supplier Part Number 1: 1276-1493-2-ND; ComponentLink1Description: Datasheet; ComponentLink1URL: http://www.samsungsem.com/kr/support/product-search/mlcc/CL05B102KB5NFNC.jsp; ComponentLink2Description: Digi-Key Listing; ComponentLink2URL: https://www.digikey.com/product-detail/en/samsung-electro-mechanics-america-inc/CL05B102KB5NFNC/1276-1493-2-ND/3887151; TemperatureCoefficient: X7R; Voltage: 50V; Price: 0.0026; Device Package: 0402 (1005 Metric)
footprint CAP 0402/1005
pins: 1, 2

## CL05B102KB5NNNC
designator C?, comment 1000pF
CAP CER 1000PF 50V X7R 0402; Part Number: CL05B102KB5NNNC; Manufacturer: Samsung Electro-Mechanics America, Inc.; TemperatureRange: -55C ~ 125C; Tolerance: 10%; Value: 1000pF; PartId: 12444; Supplier 1: Digi-Key; Supplier Part Number 1: 1276-1032-2-ND; ComponentLink1Description: Datasheet; ComponentLink1URL: http://www.samsungsem.com/kr/support/product-search/mlcc/CL05B102KB5NNNC.jsp; ComponentLink2Description: Digi-Key Listing; ComponentLink2URL: https://www.digikey.com/product-detail/en/samsung-electro-mechanics-america-inc/CL05B102KB5NNNC/1276-1032-2-ND/3886690; TemperatureCoefficient: X7R; Voltage: 50V; Price: 0.0021; Device Package: 0402 (1005 Metric)
footprint CAP 0402/1005
pins: 1, 2

## CL05B103JA5NNNC
designator C?, comment 10000pF
CAP CER 10000PF 25V X7R 0402; Part Number: CL05B103JA5NNNC; Manufacturer: Samsung Electro-Mechanics America, Inc.; TemperatureRange: -55C ~ 125C; Tolerance: 5%; Value: 10000pF; PartId: 12463; Supplier 1: Digi-Key; Supplier Part Number 1: 1276-1494-2-ND; ComponentLink1Description: Datasheet; ComponentLink1URL: http://www.samsungsem.com/kr/support/product-search/mlcc/CL05B103JA5NNNC.jsp; ComponentLink2Description: Digi-Key Listing; ComponentLink2URL: https://www.digikey.com/product-detail/en/samsung-electro-mechanics-america-inc/CL05B103JA5NNNC/1276-1494-2-ND/3887152; TemperatureCoefficient: X7R; Voltage: 25V; Price: 0.0051; Device Package: 0402 (1005 Metric)
footprint CAP 0402/1005
pins: 1, 2

## CL05B103JB5NNNC
designator C?, comment 10000pF
CAP CER 10000PF 50V X7R 0402; Part Number: CL05B103JB5NNNC; Manufacturer: Samsung Electro-Mechanics America, Inc.; TemperatureRange: -55C ~ 125C; Tolerance: 5%; Value: 10000pF; PartId: 12578; Supplier 1: Digi-Key; Supplier Part Number 1: 1276-1495-2-ND; ComponentLink1Description: Datasheet; ComponentLink1URL: http://www.samsungsem.com/kr/support/product-search/mlcc/CL05B103JB5NNNC.jsp; ComponentLink2Description: Digi-Key Listing; ComponentLink2URL: https://www.digikey.com/product-detail/en/samsung-electro-mechanics-america-inc/CL05B103JB5NNNC/1276-1495-2-ND/3887153; TemperatureCoefficient: X7R; Voltage: 50V; Price: 0.0069; Device Package: 0402 (1005 Metric)
footprint CAP 0402/1005
pins: 1, 2

## CL05B103KA5NNNC
designator C?, comment 10000pF
CAP CER 10000PF 25V X7R 0402; Part Number: CL05B103KA5NNNC; Manufacturer: Samsung Electro-Mechanics America, Inc.; TemperatureRange: -55C ~ 125C; Tolerance: 10%; Value: 10000pF; PartId: 12605; Supplier 1: Digi-Key; Supplier Part Number 1: 1276-1057-2-ND; ComponentLink1Description: Datasheet; ComponentLink1URL: http://www.samsungsem.com/kr/support/product-search/mlcc/CL05B103KA5NNNC.jsp; ComponentLink2Description: Digi-Key Listing; ComponentLink2URL: https://www.digikey.com/product-detail/en/samsung-electro-mechanics-america-inc/CL05B103KA5NNNC/1276-1057-2-ND/3886715; TemperatureCoefficient: X7R; Voltage: 25V; Price: 0.0017; Device Package: 0402 (1005 Metric)
footprint CAP 0402/1005
pins: 1, 2

## CL05B103KB5NFNC
designator C?, comment 10000pF
CAP CER 10000PF 50V X7R 0402; Part Number: CL05B103KB5NFNC; Manufacturer: Samsung Electro-Mechanics America, Inc.; TemperatureRange: -55C ~ 125C; Tolerance: 10%; Value: 10000pF; PartId: 12683; Supplier 1: Digi-Key; Supplier Part Number 1: 1276-1499-2-ND; ComponentLink1Description: Datasheet; ComponentLink1URL: http://www.samsungsem.com/kr/support/product-search/mlcc/CL05B103KB5NFNC.jsp; ComponentLink2Description: Digi-Key Listing; ComponentLink2URL: https://www.digikey.com/product-detail/en/samsung-electro-mechanics-america-inc/CL05B103KB5NFNC/1276-1499-2-ND/3887157; TemperatureCoefficient: X7R; Voltage: 50V; Price: 0.0026; Device Package: 0402 (1005 Metric)
footprint CAP 0402/1005
pins: 1, 2

## CL05B103KB5NNNC
designator C?, comment 10000pF
CAP CER 10000PF 50V X7R 0402; Part Number: CL05B103KB5NNNC; Manufacturer: Samsung Electro-Mechanics America, Inc.; TemperatureRange: -55C ~ 125C; Tolerance: 10%; Value: 10000pF; PartId: 12510; Supplier 1: Digi-Key; Supplier Part Number 1: 1276-1028-2-ND; ComponentLink1Description: Datasheet; ComponentLink1URL: http://www.samsungsem.com/kr/support/product-search/mlcc/CL05B103KB5NNNC.jsp; ComponentLink2Description: Digi-Key Listing; ComponentLink2URL: https://www.digikey.com/product-detail/en/samsung-electro-mechanics-america-inc/CL05B103KB5NNNC/1276-1028-2-ND/3886686; TemperatureCoefficient: X7R; Voltage: 50V; Price: 0.0021; Device Package: 0402 (1005 Metric)
footprint CAP 0402/1005
pins: 1, 2

## CL05B103KO5NCNC
designator C?, comment 10000pF
CAP CER 10000PF 16V X7R 0402; Part Number: CL05B103KO5NCNC; Manufacturer: Samsung Electro-Mechanics America, Inc.; TemperatureRange: -55C ~ 125C; Tolerance: 10%; Value: 10000pF; PartId: 12586; Supplier 1: Digi-Key; Supplier Part Number 1: 1276-1500-2-ND; ComponentLink1Description: Datasheet; ComponentLink1URL: http://www.samsungsem.com/kr/support/library/product-catalog/__icsFiles/afieldfile/2015/11/18/MLCC.pdf; ComponentLink2Description: Digi-Key Listing; ComponentLink2URL: https://www.digikey.com/product-detail/en/samsung-electro-mechanics-america-inc/CL05B103KO5NCNC/1276-1500-2-ND/3887158; TemperatureCoefficient: X7R; Voltage: 16V; Price: 0.0017; Device Package: 0402 (1005 Metric)
footprint CAP 0402/1005
pins: 1, 2

## CL05B103KO5NNNC
designator C?, comment 10000pF
CAP CER 10000PF 16V X7R 0402; Part Number: CL05B103KO5NNNC; Manufacturer: Samsung Electro-Mechanics America, Inc.; TemperatureRange: -55C ~ 125C; Tolerance: 10%; Value: 10000pF; PartId: 12520; Supplier 1: Digi-Key; Supplier Part Number 1: 1276-1051-2-ND; ComponentLink1Description: Datasheet; ComponentLink1URL: http://www.samsungsem.com/kr/support/library/product-catalog/__icsFiles/afieldfile/2015/11/18/MLCC.pdf; ComponentLink2Description: Digi-Key Listing; ComponentLink2URL: https://www.digikey.com/product-detail/en/samsung-electro-mechanics-america-inc/CL05B103KO5NNNC/1276-1051-2-ND/3886709; TemperatureCoefficient: X7R; Voltage: 16V; Price: 0.0017; Device Package: 0402 (1005 Metric)
footprint CAP 0402/1005
pins: 1, 2

## CL05B104JO5NNNC
designator C?, comment 0.10uF
CAP CER 0.1UF 16V X7R 0402; Part Number: CL05B104JO5NNNC; Manufacturer: Samsung Electro-Mechanics America, Inc.; TemperatureRange: -55C ~ 125C; Tolerance: 5%; Value: 0.10uF; PartId: 12929; Supplier 1: Digi-Key; Supplier Part Number 1: 1276-1505-2-ND; ComponentLink1Description: Datasheet; ComponentLink1URL: http://www.samsungsem.com/kr/support/product-search/mlcc/CL05B104JO5NNNC.jsp; ComponentLink2Description: Digi-Key Listing; ComponentLink2URL: https://www.digikey.com/product-detail/en/samsung-electro-mechanics-america-inc/CL05B104JO5NNNC/1276-1505-2-ND/3887163; TemperatureCoefficient: X7R; Voltage: 16V; Price: 0.0086; Device Package: 0402 (1005 Metric)
footprint CAP 0402/1005
pins: 1, 2

## CL05B104JP5NNNC
designator C?, comment 0.10uF
CAP CER 0.1UF 10V X7R 0402; Part Number: CL05B104JP5NNNC; Manufacturer: Samsung Electro-Mechanics America, Inc.; TemperatureRange: -55C ~ 125C; Tolerance: 5%; Value: 0.10uF; PartId: 12932; Supplier 1: Digi-Key; Supplier Part Number 1: 1276-1506-2-ND; ComponentLink1Description: Datasheet; ComponentLink1URL: http://www.samsungsem.com/kr/support/product-search/mlcc/CL05B104JP5NNNC.jsp; ComponentLink2Description: Digi-Key Listing; ComponentLink2URL: https://www.digikey.com/product-detail/en/samsung-electro-mechanics-america-inc/CL05B104JP5NNNC/1276-1506-2-ND/3887164; TemperatureCoefficient: X7R; Voltage: 10V; Price: 0.0075; Device Package: 0402 (1005 Metric)
footprint CAP 0402/1005
pins: 1, 2

## CL05B104KO3LNNC
designator C?, comment 0.10uF
CAP CER 0.1UF 16V X7R 0402; Part Number: CL05B104KO3LNNC; Manufacturer: Samsung Electro-Mechanics America, Inc.; TemperatureRange: -55C ~ 125C; Tolerance: 10%; Value: 0.10uF; PartId: 12714; Supplier 1: Digi-Key; Supplier Part Number 1: 1276-1507-2-ND; ComponentLink1Description: Datasheet; ComponentLink1URL: http://www.samsungsem.com/kr/front/downloadcms.do?path=/kr/support/product-search/mlcc/__icsFiles/afieldfile/2014/11/05&fileName=C_CL05B104KO3LNNC.pdf; ComponentLink2Description: Digi-Key Listing; ComponentLink2URL: https://www.digikey.com/product-detail/en/samsung-electro-mechanics-america-inc/CL05B104KO3LNNC/1276-1507-2-ND/3887165; TemperatureCoefficient: X7R; Voltage: 16V; Price: 0.0043; Device Package: 0402 (1005 Metric)
footprint CAP 0402/1005
pins: 1, 2

## CL05B104KO5NFNC
designator C?, comment 0.10uF
CAP CER 0.1UF 16V X7R 0402; Part Number: CL05B104KO5NFNC; Manufacturer: Samsung Electro-Mechanics America, Inc.; TemperatureRange: -55C ~ 125C; Tolerance: 10%; Value: 0.10uF; PartId: 12572; Supplier 1: Digi-Key; Supplier Part Number 1: 1276-1508-2-ND; ComponentLink1Description: Datasheet; ComponentLink1URL: http://www.samsungsem.com/kr/support/product-search/mlcc/CL05B104KO5NFNC.jsp; ComponentLink2Description: Digi-Key Listing; ComponentLink2URL: https://www.digikey.com/product-detail/en/samsung-electro-mechanics-america-inc/CL05B104KO5NFNC/1276-1508-2-ND/3887166; TemperatureCoefficient: X7R; Voltage: 16V; Price: 0.0021; Device Package: 0402 (1005 Metric)
footprint CAP 0402/1005
pins: 1, 2

## CL05B104KO5NNNC
designator C?, comment 0.10uF
CAP CER 0.1UF 16V X7R 0402; Part Number: CL05B104KO5NNNC; Manufacturer: Samsung Electro-Mechanics America, Inc.; TemperatureRange: -55C ~ 125C; Tolerance: 10%; Value: 0.10uF; PartId: 12348; Supplier 1: Digi-Key; Supplier Part Number 1: 1276-1001-2-ND; ComponentLink1Description: Datasheet; ComponentLink1URL: http://www.samsungsem.com/kr/support/product-search/mlcc/CL05B104KO5NNNC.jsp; ComponentLink2Description: Digi-Key Listing; ComponentLink2URL: https://www.digikey.com/product-detail/en/samsung-electro-mechanics-america-inc/CL05B104KO5NNNC/1276-1001-2-ND/3886659; TemperatureCoefficient: X7R; Voltage: 16V; Price: 0.002; Device Package: 0402 (1005 Metric)
footprint CAP 0402/1005
pins: 1, 2

## CL05B104KO5NNWC
designator C?, comment 0.10uF
CAP CER 0.1UF 16V X7R 0402; Part Number: CL05B104KO5NNWC; Manufacturer: Samsung Electro-Mechanics America, Inc.; TemperatureRange: -55C ~ 125C; Tolerance: 10%; Value: 0.10uF; PartId: 12886; Supplier 1: Digi-Key; Supplier Part Number 1: 1276-1509-2-ND; ComponentLink1Description: Datasheet; ComponentLink1URL: http://www.samsungsem.com/kr/support/product-search/mlcc/CL05B104KO5NNWC.jsp; ComponentLink2Description: Digi-Key Listing; ComponentLink2URL: https://www.digikey.com/product-detail/en/samsung-electro-mechanics-america-inc/CL05B104KO5NNWC/1276-1509-2-ND/3887167; TemperatureCoefficient: X7R; Voltage: 16V; Price: 0.002; Device Package: 0402 (1005 Metric)
footprint CAP 0402/1005
pins: 1, 2

## CL05B104KP5NNNC
designator C?, comment 0.10uF
CAP CER 0.1UF 10V X7R 0402; Part Number: CL05B104KP5NNNC; Manufacturer: Samsung Electro-Mechanics America, Inc.; TemperatureRange: -55C ~ 125C; Tolerance: 10%; Value: 0.10uF; PartId: 12343; Supplier 1: Digi-Key; Supplier Part Number 1: 1276-1002-2-ND; ComponentLink1Description: Datasheet; ComponentLink1URL: http://www.samsungsem.com/kr/support/product-search/mlcc/CL05B104KP5NNNC.jsp; ComponentLink2Description: Digi-Key Listing; ComponentLink2URL: https://www.digikey.com/product-detail/en/samsung-electro-mechanics-america-inc/CL05B104KP5NNNC/1276-1002-2-ND/3886660; TemperatureCoefficient: X7R; Voltage: 10V; Price: 0.002; Device Package: 0402 (1005 Metric)
footprint CAP 0402/1005
pins: 1, 2